# Altium footprint library PCB_Modules.PcbLib: 4 footprints
Each footprint in its own frame and in the unit in brackets; x right, y up, seen from the top. Pads: shape width x height; smd on the part's side, far side on the other; paste and mask are expansions set on the pad; w line width, h text height; cw(c..) or ccw(c..) is an arc to the next point about the centre after c.
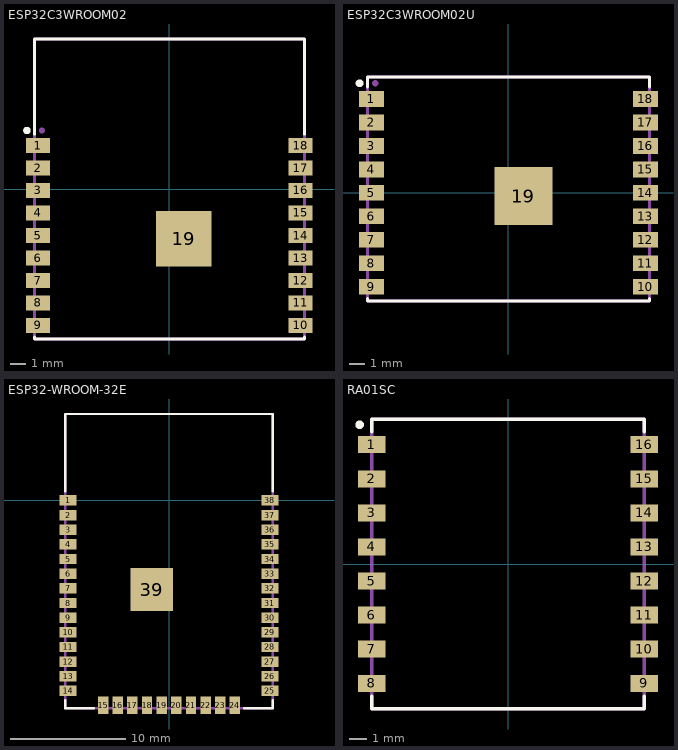
[diagram p0: the footprints below, top view; thin cyan lines are the x and y axes]

## ESP32C3WROOM02 [mm]
pads (19):
  rect 1.6x1 smd: 1(-8.75,2.9) 2(-8.75,1.4) 3(-8.75,-0.1) 4(-8.75,-1.6) 5(-8.75,-3.1) 6(-8.75,-4.6) 7(-8.75,-6.1) 8(-8.75,-7.6) 9(-8.75,-9.1) 10(8.75,-9.1) 11(8.75,-7.6) 12(8.75,-6.1) 13(8.75,-4.6) 14(8.75,-3.1) 15(8.75,-1.6) 16(8.75,-0.1) 17(8.75,1.4) 18(8.75,2.9)
  rect 3.7x3.7 smd paste-2539.97 mask+0.102: 19(0.96,-3.3)
Top Overlay:
  circle w0.3: c-9.5,3.9 r0.1
  lines w0.2: -9,-9.85 -9,-10 9,-10 9,-9.85 ; -9,3.65 -9,10 9,10 9,3.65
Top Paste:
  rectangle: 0.51,-3.75 1.41,-2.85
  rectangle: -0.89,-2.35 0.01,-1.45
  rectangle: -0.89,-3.75 0.01,-2.85
  rectangle: -0.89,-5.15 0.01,-4.25
  rectangle: 0.51,-5.15 1.41,-4.25
  rectangle: 1.91,-5.15 2.81,-4.25
  rectangle: 1.91,-3.75 2.81,-2.85
  rectangle: 1.91,-2.35 2.81,-1.45
  rectangle: 0.51,-2.35 1.41,-1.45
Top Assembly:
  circle w0.2: c-8.5,3.9 r0.1
  lines w0.2: -9,-10 9,-10 9,10 -9,10 -9,-10
  text ".Designator" at -3.499,-0.233 h0.7
3D body "ESP32-C3-WROOM-02.STEP": height 3.36, standoff 0.01, extent -9,-10 9,10

## ESP32C3WROOM02U [mm]
pads (19):
  rect 1.6x1 smd: 1(-8.75,6) 2(-8.75,4.5) 3(-8.75,3) 4(-8.75,1.5) 5(-8.75,0) 6(-8.75,-1.5) 7(-8.75,-3) 8(-8.75,-4.5) 9(-8.75,-6) 10(8.75,-6) 11(8.75,-4.5) 12(8.75,-3) 13(8.75,-1.5) 14(8.75,0) 15(8.75,1.5) 16(8.75,3) 17(8.75,4.5) 18(8.75,6)
  rect 3.7x3.7 smd paste-2539.97 mask+0.102: 19(0.96,-0.2)
Top Overlay:
  circle w0.3: c-9.5,7 r0.1
  lines w0.2: -9,-6.75 -9,-6.9 9,-6.9 9,-6.75 ; -9,6.75 -9,7.4 9,7.4 9,6.75
Top Paste:
  rectangle: 0.51,0.75 1.41,1.65
  rectangle: 1.91,0.75 2.81,1.65
  rectangle: 1.91,-0.65 2.81,0.25
  rectangle: 1.91,-2.05 2.81,-1.15
  rectangle: 0.51,-2.05 1.41,-1.15
  rectangle: -0.89,-2.05 0.01,-1.15
  rectangle: -0.89,-0.65 0.01,0.25
  rectangle: -0.89,0.75 0.01,1.65
  rectangle: 0.51,-0.65 1.41,0.25
Top Assembly:
  circle w0.2: c-8.5,7 r0.1
  lines w0.2: -9,-6.9 -9,7.4 9,7.4 9,-6.9 -9,-6.9
  text ".Designator" at -3.499,2.867 h0.7
3D body "ESP32-C3-WROOM-02U.STEP": height 3.22, standoff 0.01, extent -9,-7.149 9,7.151

## ESP32­WROOM­32E [mm]
pads (39):
  rect 1.5x0.9 smd: 1(-8.75,0) 2(-8.75,-1.27) 3(-8.75,-2.54) 4(-8.75,-3.81) 5(-8.75,-5.08) 6(-8.75,-6.35) 7(-8.75,-7.62) 8(-8.75,-8.89) 9(-8.75,-10.16) 10(-8.75,-11.43) 11(-8.75,-12.7) 12(-8.75,-13.97) 13(-8.75,-15.24) 14(-8.75,-16.51) 25(8.75,-16.51) 26(8.75,-15.24) 27(8.75,-13.97) 28(8.75,-12.7) 29(8.75,-11.43) 30(8.75,-10.16) 31(8.75,-8.89) 32(8.75,-7.62) 33(8.75,-6.35) 34(8.75,-5.08) 35(8.75,-3.81) 36(8.75,-2.54) 37(8.75,-1.27) 38(8.75,0)
  rect 0.9x1.5 smd: 15(-5.715,-17.76) 16(-4.445,-17.76) 17(-3.175,-17.76) 18(-1.905,-17.76) 19(-0.635,-17.76) 20(0.635,-17.76) 21(1.905,-17.76) 22(3.175,-17.76) 23(4.445,-17.76) 24(5.715,-17.76)
  rect 3.7x3.7 smd paste-2539.97 mask+0.102: 39(-1.5,-7.72)
Top Overlay:
  lines w0.2: -9,-17.3 -9,-18.01 -6.5,-18.01 ; -9,0.8 -9,7.49 9,7.49 9,0.8 ; 6.5,-18.01 9,-18.01 9,-17.3
Top Paste:
  rectangle: -3.35,-8.17 -2.45,-7.27
  rectangle: -0.55,-8.17 0.35,-7.27
  rectangle: -1.95,-8.17 -1.05,-7.27
  rectangle: -1.95,-6.77 -1.05,-5.87
  rectangle: -0.55,-6.77 0.35,-5.87
  rectangle: -3.35,-6.77 -2.45,-5.87
  rectangle: -1.95,-9.57 -1.05,-8.67
  rectangle: -0.55,-9.57 0.35,-8.67
  rectangle: -3.35,-9.57 -2.45,-8.67
Top Assembly:
  circle w0.2: c-8.5,0 r0.1
  lines w0.2: -9,-18.01 -9,7.49 9,7.49 9,-18.01 -9,-18.01
  text ".Designator" at -3.499,6.371 h0.7
3D body "ESP32-WROOM-32E.STEP": height 3.26, standoff 0.01, extent -9,-18 9,7.5

## RA01SC [mm]
pads (16):
  rect 1.6x1 smd: 1(-8,7) 2(-8,5) 3(-8,3) 4(-8,1) 5(-8,-1) 6(-8,-3) 7(-8,-5) 8(-8,-7) 9(8,-7) 10(8,-5) 11(8,-3) 12(8,-1) 13(8,1) 14(8,3) 15(8,5) 16(8,7)
Top Overlay:
  circle w0.3: c-8.702,8.168 r0.1
  lines w0.2: -8,-7.75 -8,-8.5 8,-8.5 8,-7.75 ; -8,7.75 -8,8.5 8,8.5 8,7.75
Top Assembly:
  circle w0.2: c-7.5,7 r0.1
  lines w0.2: -8,-8.5 8,-8.5 8,8.5 -8,8.5 -8,-8.5
  text ".Designator" at -3.499,-0.233 h0.7
3D body "RA-01SC.STEP": height 3.41, standoff 0.01, extent -8,-8.5 8,8.5